# EAGLE library part DISPLAY (library roboSim_Parts)
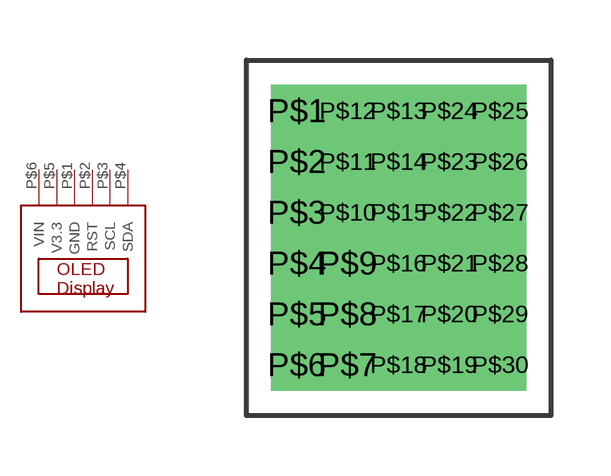
[diagram p1: symbol with the pads of DUMMY; footprint DUMMY]

Designator prefix -

## DISPLAY  [DUMMY]
P$1  GND
P$2  RST
P$3  SCL
P$4  SDA
P$5  V3.3
P$6  VIN

## Footprint DUMMY (pad centres in mm)
drill 0.8 square: P$1 1.27,7.62; P$2 1.27,6.35; P$3 1.27,5.08; P$4 1.27,3.81; P$5 1.27,2.54; P$6 1.27,1.27; P$7 2.54,1.27; P$8 2.54,2.54; P$9 2.54,3.81; P$10 2.54,5.08; P$11 2.54,6.35; P$12 2.54,7.62; P$13 3.81,7.62; P$14 3.81,6.35; P$15 3.81,5.08; P$16 3.81,3.81; P$17 3.81,2.54; P$18 3.81,1.27; P$19 5.08,1.27; P$20 5.08,2.54; P$21 5.08,3.81; P$22 5.08,5.08; P$23 5.08,6.35; P$24 5.08,7.62; P$25 6.35,7.62; P$26 6.35,6.35; P$27 6.35,5.08; P$28 6.35,3.81; P$29 6.35,2.54; P$30 6.35,1.27